# EAGLE library part THT-PINHEADER_1X6 (library cartreader)
3-pin connector
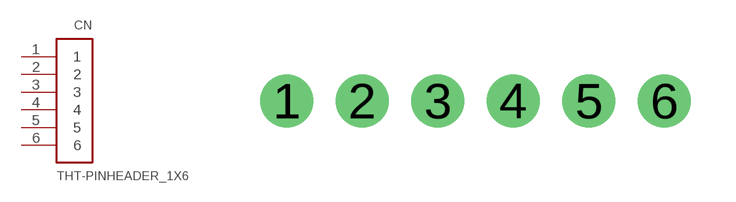
[diagram p1: symbol with the pads of 1X06-CLEANBIG; footprint 1X06-CLEANBIG]

Designator prefix CN

## THT-PINHEADER_1X6-CLEANBIG  [1X06-CLEANBIG]
1  1
2  2
3  3
4  4
5  5
6  6

## Footprint 1X06-CLEANBIG (pad centres in mm)
drill 1.016 pad 1.778: 1 -5.08,0; 2 -2.54,0; 3 0,0; 4 2.54,0; 5 5.08,0; 6 7.62,0